# Altium footprint library AnanasSTM32.PcbLib: 16 footprints
Each footprint in its own frame and in the unit in brackets; x right, y up, seen from the top. Pads: shape width x height; smd on the part's side, far side on the other; paste and mask are expansions set on the pad; w line width, h text height; cw(c..) or ccw(c..) is an arc to the next point about the centre after c.
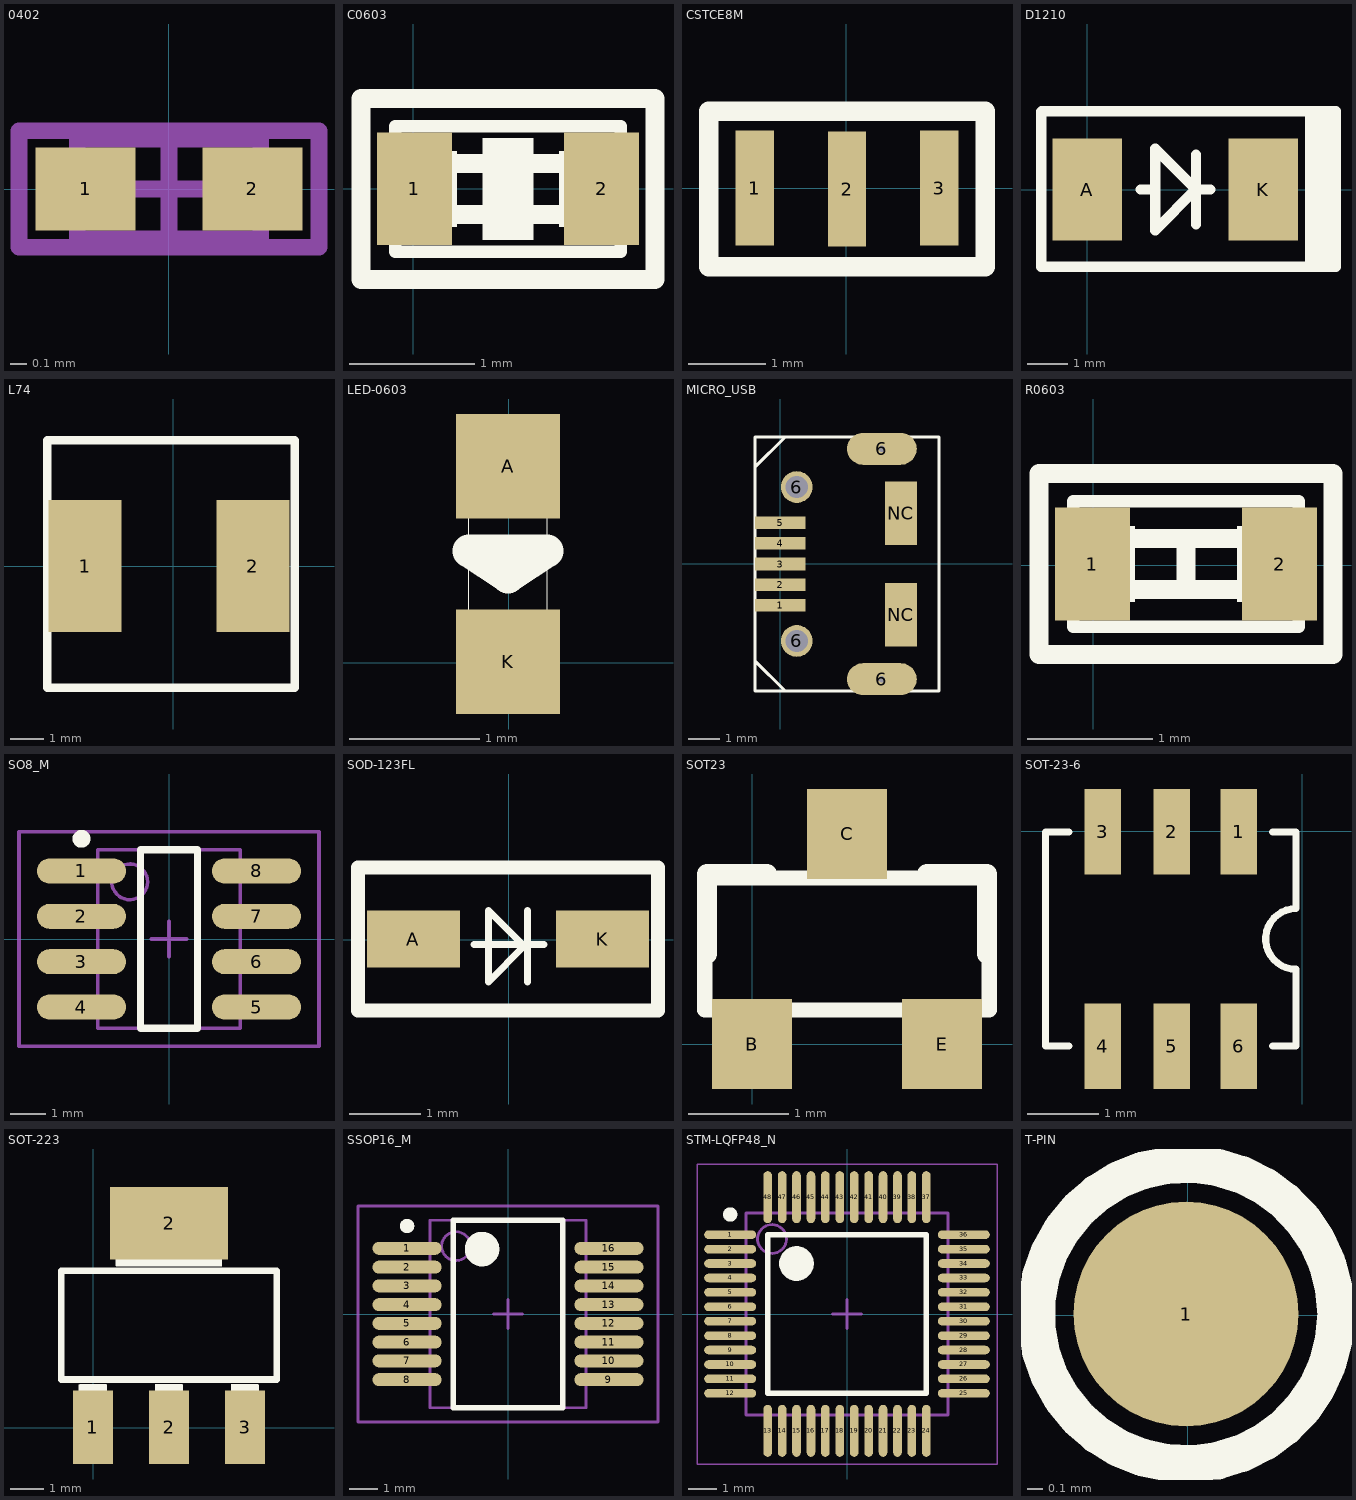
[diagram p0: the footprints below, top view; thin cyan lines are the x and y axes]

## 0402 [mm] "Chip Capacitor, Body 1.0x0.5mm, IPC High Density"
height 1.3
pads (2):
  rect 0.6x0.5 smd: 1(-0.5,0) 2(0.5,0)
Mechanical 13:
  lines w0.1: -0.55,-0.3 -0.55,0.3 0.55,0.3 0.55,-0.3 -0.55,-0.3
Mechanical 15:
  lines w0.1: -0.3,0 0.3,0 ; 0,-0.3 0,0.3 ; -0.9,-0.35 -0.9,0.35 0.9,0.35 0.9,-0.35 -0.9,-0.35
3D body: height 1.3, standoff 0, extent -0.55,-0.3 0.55,0.3

## C0603 [mm]
pads (2):
  rect 0.6x0.9 smd: 1(0.01,0) 2(1.51,0)
Top Overlay:
  rectangle: 0.557,-0.406 0.963,0.406
  rectangle: 1.167,-0.305 1.471,0.305
  rectangle: 1.167,-0.305 1.471,0.305
  rectangle: 0.049,-0.305 0.354,0.305
  rectangle: 0.56,-0.3 0.96,0.3
  lines w0.1: -0.14,-0.5 -0.14,0.5 1.66,0.5 1.66,-0.5 -0.14,-0.5
  lines w0.15: 0.252,-0.203 1.268,-0.203 ; 0.252,0.203 1.268,0.203 ; 0.76,-0.051 0.76,0.051 ; -0.415,-0.725 -0.415,0.725 1.935,0.725 1.935,-0.725 -0.415,-0.725

## CSTCE8M [mm]
pads (3):
  rect 0.5x1.5 smd: 1(-1.192,0) 2(0.008,-0.013) 3(1.208,0)
Top Overlay:
  lines w0.254: -1.792,-1.025 -1.792,1 1.808,1 1.808,-1.025 -1.792,-1.025

## D1210 [mm]
pads (2):
  rect 1.7x2.5 smd: A(-0.005,-0.004) K(4.313,-0.004)
Top Overlay:
  lines w0.254: -1.128,1.9 -1.128,-1.888 6.091,-1.888 ; -1.116,1.912 6.091,1.912 ; 1.311,0.001 1.661,0.001 ; 2.661,-0.849 2.661,0.851 ; 3.011,0.001 2.661,0.001 ; 5.461,-1.838 5.461,1.912 ; 5.583,-1.884 5.583,1.875 ; 6.091,-1.884 6.091,1.875 ; 2.661,0.001 1.661,-0.999 1.661,1.001 2.661,0.001
  lines w0.5: 5.854,-1.667 5.854,1.791

## L74 [mm]
pads (2):
  rect 2.2x4 smd: 1(-2.667,0) 2(2.413,0)
Top Overlay:
  lines w0.254: -3.81,-3.683 -3.81,3.81 3.683,3.81 3.683,-3.683 -3.81,-3.683

## LED-0603 [mm]
pads (2):
  rect 0.8x0.8 smd: A(-0.004,1.506) K(-0.004,0.007)
Top Overlay:
  lines w0: -0.304,-0.043 -0.304,1.556 0.296,1.556 0.296,-0.043 -0.304,-0.043
  lines w0.25: -0.304,0.856 0.296,0.856 -0.004,0.657 -0.304,0.856

## MICRO_USB [mm]
pads (11):
  rect 1.6x0.4 smd: 1(-0.003,-1.308) 2(-0.003,-0.658) 3(-0.003,-0.008) 4(-0.003,0.642) 5(-0.003,1.292)
  round 1 hole 0.7: 6(0.517,-2.433) 6(0.517,2.417)
  oval 2.2x1 hole 0.2: 6(3.197,-3.633) 6(3.197,3.617)
  rect 1x2 smd: NC(3.797,-1.608) NC(3.797,1.592)
Top Overlay:
  lines w0.102: -0.803,-3.056 0.149,-4.008 ; -0.803,3.04 0.149,3.992 ; -0.803,-4.008 -0.803,3.992 4.997,3.992 4.997,-4.008 -0.803,-4.008
Keep-Out Layer:
  lines w0.7: 2.647,-3.633 3.197,-3.633 3.747,-3.633 ; 2.647,3.617 3.197,3.617 3.747,3.617

## R0603 [mm]
pads (2):
  rect 0.6x0.9 smd: 1(-0.008,0.01) 2(1.492,0.01)
Top Overlay:
  rectangle: 1.149,-0.295 1.454,0.315
  rectangle: 1.149,-0.295 1.454,0.315
  rectangle: 0.031,-0.294 0.336,0.315
  lines w0.1: -0.158,-0.49 -0.158,0.51 1.642,0.51 1.642,-0.49 -0.158,-0.49
  lines w0.15: 0.234,-0.193 1.25,-0.193 ; 0.234,0.213 1.25,0.213 ; 0.742,-0.117 0.742,0.137 ; -0.433,-0.715 -0.433,0.735 1.917,0.735 1.917,-0.715 -0.433,-0.715

## SO8_M [mm] "SOIC, 8-Leads, Body 4.9x3.9mm, Pitch 1.27mm, IPC Low Density"
height 1.75
pads (8):
  oval 2.5x0.7 smd: 1(-2.45,1.905) 2(-2.45,0.635) 3(-2.45,-0.635) 4(-2.45,-1.905) 5(2.45,-1.905) 6(2.45,-0.635) 7(2.45,0.635) 8(2.45,1.905)
Top Overlay:
  circle w0.25: c-2.45,2.805 r0.125
  lines w0.2: -0.8,-2.5 0.8,-2.5 0.8,2.5 -0.8,2.5 -0.8,-2.5
Mechanical 13:
  circle w0.1: c-1.1,1.6 r0.5
  lines w0.1: -2,-2.5 2,-2.5 2,2.5 -2,2.5 -2,-2.5
Mechanical 15:
  lines w0.1: -0.5,0 0.5,0 ; 0,-0.5 0,0.5 ; -4.2,-3 4.2,-3 4.2,3 -4.2,3 -4.2,-3
3D body: height 1.75, standoff 0, extent -2,-2.5 2,2.5

## SOD-123FL [mm]
pads (2):
  rect 1.3x0.8 smd: A(-1.334,0.009) K(1.316,0.009)
Top Overlay:
  lines w0.1: -0.484,-0.066 0.491,-0.066 ; 0.266,-0.591 0.266,0.409 ; -0.284,-0.591 0.216,-0.091 -0.284,0.409 -0.284,-0.591
  lines w0.2: -2.109,-0.991 -2.109,1.009 2.091,1.009 2.091,-0.991 -2.109,-0.991

## SOT23 [mm]
pads (3):
  rect 0.8x0.9 smd: B(0,0) C(0.95,2.1) E(1.9,0)
Top Overlay:
  lines w0.152: -0.472,0.34 2.372,0.34 2.372,1.66 -0.472,1.66 -0.472,0.34
  lines w0.203: -0.45,0.9 -0.45,1.7 0.15,1.7 ; 1.75,1.7 2.35,1.7 2.35,0.9

## SOT-23-6 [mm]
pads (6):
  rect 0.508x1.2 smd: 1(-0.89,-0.008) 2(-1.83,-0.008) 3(-2.795,-0.008) 4(-2.795,-3.008) 5(-1.83,-3.008) 6(-0.89,-3.008)
Top Overlay:
  lines w0.1: -3.27,-3.008 -3.595,-3.008 -3.595,-1.933 -3.595,-0.008 -3.27,-0.008 ; -0.415,-3.008 -0.09,-3.008 -0.09,-1.933 ; -0.415,-0.008 -0.09,-0.008 -0.09,-1.083 ccw(c-0.09,-1.508) -0.09,-1.932

## SOT-223 [mil]
pads (4):
  rect 48x88 smd: 1(-0.33,0.37) 2(90.67,0.37) 3(181.67,0.37)
  rect 141.73x86.61 smd: 2(90.67,244.38)
Top Overlay:
  rectangle: 73.63,-21.64 107.63,51.36
  rectangle: -17.37,-21.64 16.63,51.36
  rectangle: 164.63,-21.64 198.63,51.36
  rectangle: 27.63,193.36 153.63,266.36
  rectangle: 73.63,-21.64 107.63,51.36
  rectangle: -17.37,-21.64 16.63,51.36
  rectangle: 164.63,-21.64 198.63,51.36
  lines w0.01: -15.63,-19.36 15.87,-19.36 15.87,51.51 -15.63,51.51 -15.63,-19.36 ; 27.68,193.24 153.66,193.24 153.66,264.1 27.68,264.1 27.68,193.24 ; 74.92,-19.36 106.42,-19.36 106.42,51.51 74.92,51.51 74.92,-19.36 ; 165.47,-19.36 196.97,-19.36 196.97,51.51 165.47,51.51 165.47,-19.36
  lines w0.07: -39.25,55.44 220.59,55.44 220.59,189.3 -39.25,189.3 -39.25,55.44
  lines w8: -38.33,57.37 219.67,57.37 219.67,187.37 -38.33,187.37 -38.33,57.37

## SSOP16_M [mm] "SOP, 16-Leads, Body 6.2x5.3mm, Pitch 0.65mm, IPC Low Density"
height 2
pads (16):
  oval 2.4x0.45 smd: 1(-3.5,2.275) 2(-3.5,1.625) 3(-3.5,0.975) 4(-3.5,0.325) 5(-3.5,-0.325) 6(-3.5,-0.975) 7(-3.5,-1.625) 8(-3.5,-2.275) 9(3.5,-2.275) 10(3.5,-1.625) 11(3.5,-0.975) 12(3.5,-0.325) 13(3.5,0.325) 14(3.5,0.975) 15(3.5,1.625) 16(3.5,2.275)
Top Overlay:
  circle w0.6: c-0.9,2.25 r0.3
  circle w0.25: c-3.5,3.05 r0.125
  lines w0.2: -1.9,-3.25 1.9,-3.25 1.9,3.25 -1.9,3.25 -1.9,-3.25
Mechanical 13:
  circle w0.1: c-1.8,2.35 r0.5
  lines w0.1: -2.7,-3.25 2.7,-3.25 2.7,3.25 -2.7,3.25 -2.7,-3.25
Mechanical 15:
  lines w0.1: -0.5,0 0.5,0 ; 0,-0.5 0,0.5 ; -5.2,-3.75 5.2,-3.75 5.2,3.75 -5.2,3.75 -5.2,-3.75
3D body: height 2, standoff 0, extent -2.7,-3.25 2.7,3.25

## STM-LQFP48_N [mm] "QFP, 48-Leads, Body 7x7mm, Pitch 0.5mm, IPC Medium Density"
height 1.6
pads (48):
  oval 1.8x0.3 smd: 1(-4.05,2.75) 2(-4.05,2.25) 3(-4.05,1.75) 4(-4.05,1.25) 5(-4.05,0.75) 6(-4.05,0.25) 7(-4.05,-0.25) 8(-4.05,-0.75) 9(-4.05,-1.25) 10(-4.05,-1.75) 11(-4.05,-2.25) 12(-4.05,-2.75) 25(4.05,-2.75) 26(4.05,-2.25) 27(4.05,-1.75) 28(4.05,-1.25) 29(4.05,-0.75) 30(4.05,-0.25) 31(4.05,0.25) 32(4.05,0.75) 33(4.05,1.25) 34(4.05,1.75) 35(4.05,2.25) 36(4.05,2.75)
  oval 0.3x1.8 smd: 13(-2.75,-4.05) 14(-2.25,-4.05) 15(-1.75,-4.05) 16(-1.25,-4.05) 17(-0.75,-4.05) 18(-0.25,-4.05) 19(0.25,-4.05) 20(0.75,-4.05) 21(1.25,-4.05) 22(1.75,-4.05) 23(2.25,-4.05) 24(2.75,-4.05) 37(2.75,4.05) 38(2.25,4.05) 39(1.75,4.05) 40(1.25,4.05) 41(0.75,4.05) 42(0.25,4.05) 43(-0.25,4.05) 44(-0.75,4.05) 45(-1.25,4.05) 46(-1.75,4.05) 47(-2.25,4.05) 48(-2.75,4.05)
Top Overlay:
  circle w0.6: c-1.75,1.75 r0.3
  circle w0.25: c-4.05,3.45 r0.125
  lines w0.2: -2.75,-2.75 2.75,-2.75 2.75,2.75 -2.75,2.75 -2.75,-2.75
Mechanical 13:
  circle w0.1: c-2.6,2.6 r0.5
  lines w0.1: -3.5,-3.5 3.5,-3.5 3.5,3.5 -3.5,3.5 -3.5,-3.5
Mechanical 15:
  lines w0.05: -5.2,-5.2 5.2,-5.2 5.2,5.2 -5.2,5.2 -5.2,-5.2
  lines w0.1: -0.5,0 0.5,0 ; 0,-0.5 0,0.5
3D body: height 1.6, standoff 0.05, extent -3.5,-3.5 3.5,3.5

## T-PIN [mm]
pads (1):
  round 1.5 smd: 1(-0.012,0.007)
Top Overlay:
  circle w0.25: c-0.012,0.007 r1